# EAGLE library part SI8273 (library Public)
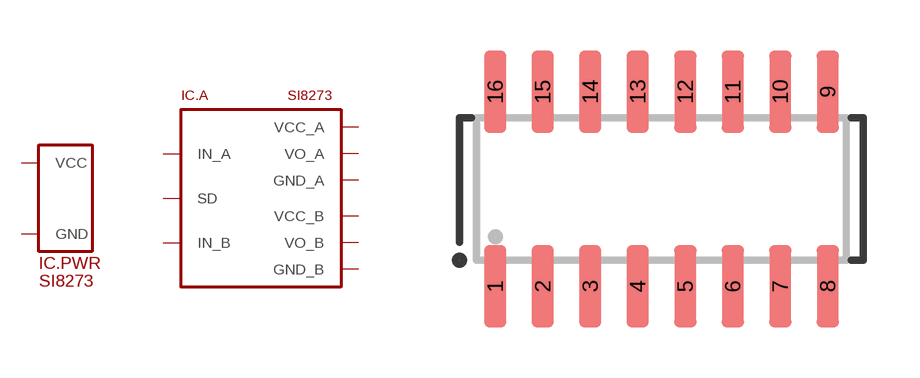
[diagram p30: symbol with the pads of SO16; footprint SO16]

Designator prefix IC; gates .PWR=SUPPLY_VCC/GND .A=SI8273

## SI8273  [SO16]
1  .A:IN_A
2  .A:IN_B
3  .PWR:VCC
4  .PWR:GND
5  .A:SD
8  .PWR:VCC
9  .A:GND_B
10  .A:VO_B
11  .A:VCC_B
12  .A:GND_A
13  .A:VO_A
14  .A:VCC_A

## Footprint SO16 (pad centres in mm)
smd 0.6 x 2.2: 1 -4.445,-2.6; 2 -3.175,-2.6; 3 -1.905,-2.6; 4 -0.635,-2.6; 5 0.635,-2.6; 6 1.905,-2.6; 7 3.175,-2.6; 8 4.445,-2.6; 9 4.445,2.6; 10 3.175,2.6; 11 1.905,2.6; 12 0.635,2.6; 13 -0.635,2.6; 14 -1.905,2.6; 15 -3.175,2.6; 16 -4.445,2.6